# Altium footprint library connector.PcbLib: 180 footprints (part 1 of 12)
Each footprint in its own frame and in the unit in brackets; x right, y up, seen from the top. Pads: shape width x height; smd on the part's side, far side on the other; paste and mask are expansions set on the pad; w line width, h text height; cw(c..) or ccw(c..) is an arc to the next point about the centre after c.
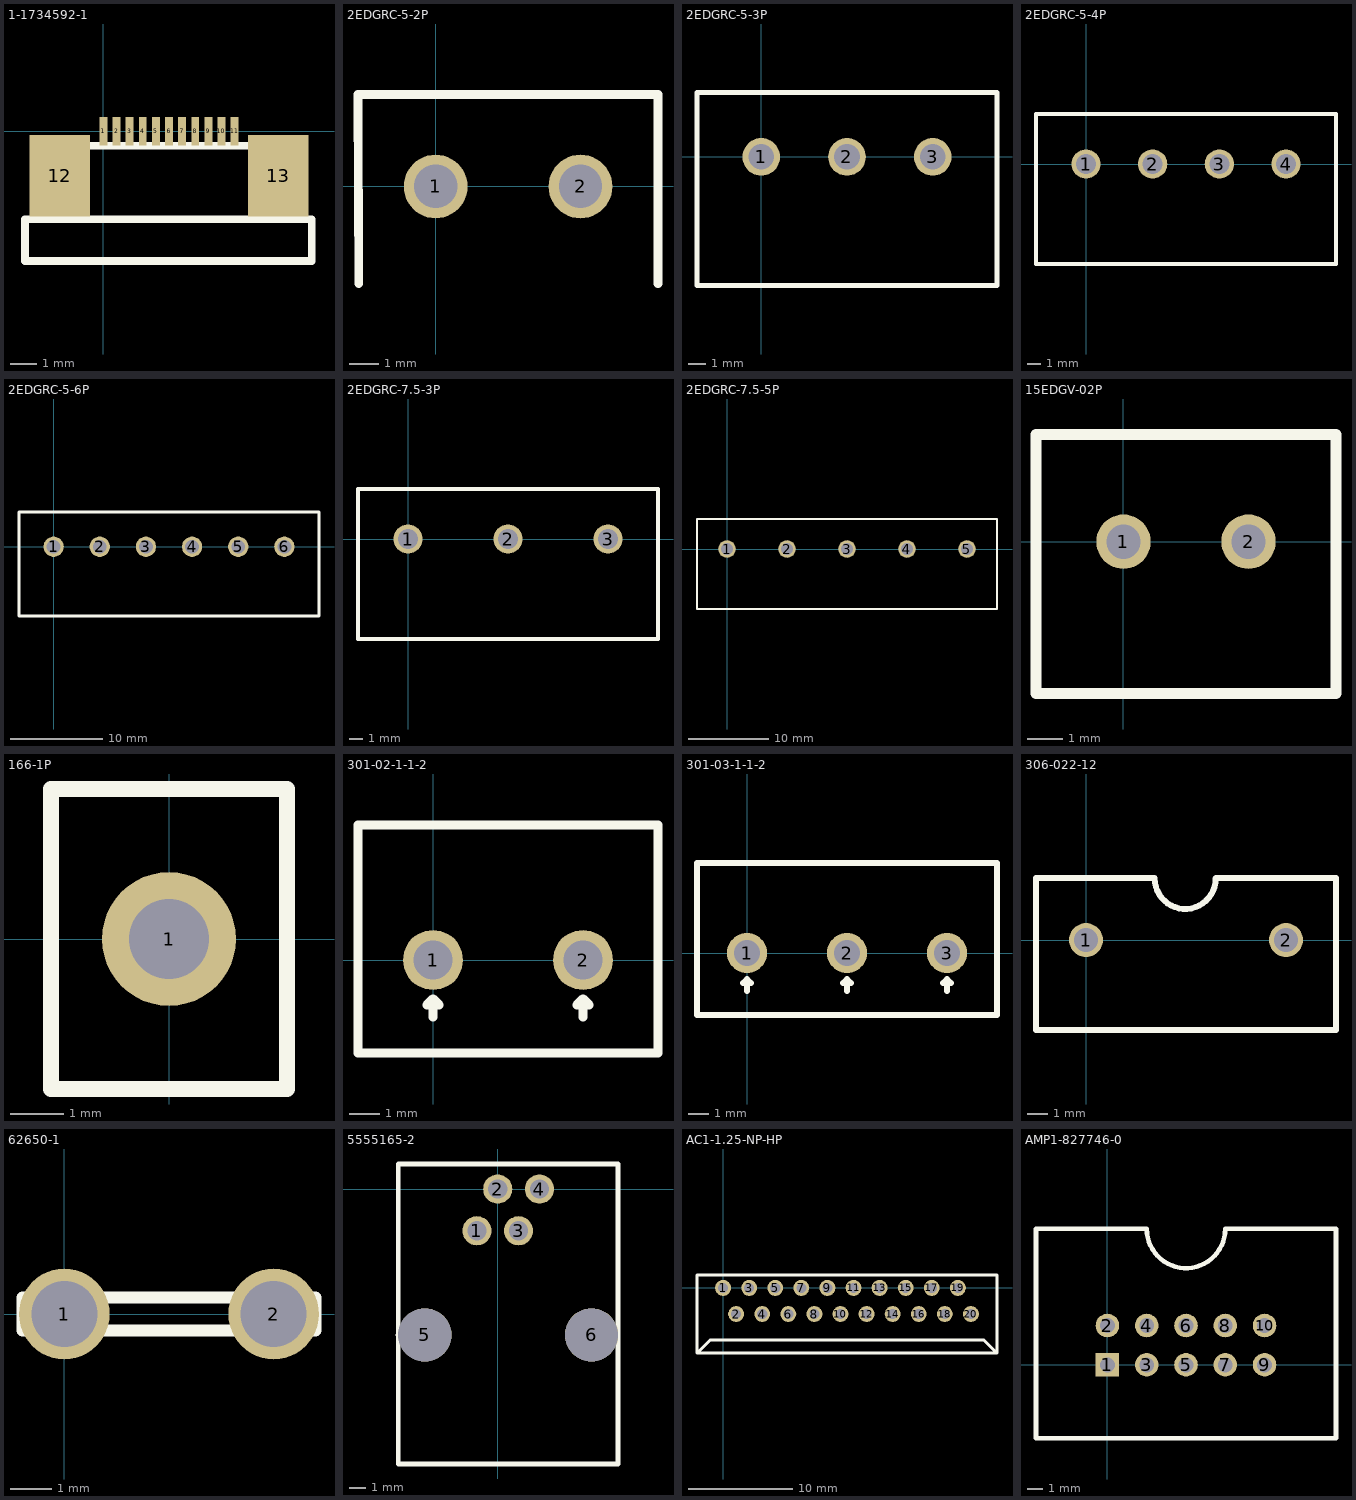
[diagram p0: the footprints below, top view; thin cyan lines are the x and y axes]

## 1-1734592-1 [mm]
pads (13):
  rect 0.3x1.1 smd: 1(0,0) 2(0.5,0) 3(1,0) 4(1.5,0) 5(2,0) 6(2.5,0) 7(3,0) 8(3.5,0) 9(4,0) 10(4.5,0) 11(5,0)
  rect 2.3x3.1 smd: 12(-1.67,-1.7) 13(6.67,-1.7)
Top Overlay:
  lines w0.3: -2.315,-3.355 -2.315,-0.555 7.305,-0.555 7.305,-3.355 ; -2.985,-4.955 7.945,-4.955 7.945,-3.355 -2.985,-3.355 -2.985,-4.955

## 2EDGRC-5-2P [mm]
pads (2):
  round 2.2 hole 1.5: 1(0,0) 2(5,0)
Top Overlay:
  lines w0.3: -2.656,-3.35 -2.681,3.175 7.675,3.175 7.675,-3.35
3D body "User Library-5EHDR_2P.step": height 8.47, standoff -4, extent -2.5,-9 7.5,3

## 2EDGRC-5-3P [mm]
pads (3):
  round 2.2 hole 1.5: 1(0,0) 2(5,0) 3(10,0)
Top Overlay:
  lines w0.3: -3.75,-7.5 13.75,-7.5 13.75,3.75 -3.75,3.75 -3.75,-5 -3.75,-7.5

## 2EDGRC-5-4P [mm]
pads (4):
  round 2.2 hole 1.5: 1(0,0) 2(5,0) 3(10,0) 4(15,0)
Top Overlay:
  lines w0.3: -3.75,-7.5 18.75,-7.5 18.75,3.75 -3.75,3.75 -3.75,-5 -3.75,-7.5

## 2EDGRC-5-6P [mm]
pads (6):
  round 2.2 hole 1.5: 1(0,0) 2(5,0) 3(10,0) 4(15,0) 5(20,0) 6(25,0)
Top Overlay:
  lines w0.3: -3.75,-7.5 -3.75,-5 -3.75,3.75 28.75,3.75 28.75,-7.5 -3.75,-7.5

## 2EDGRC-7.5-3P [mm]
pads (3):
  round 2.2 hole 1.5: 1(0,0) 2(7.5,0) 3(15,0)
Top Overlay:
  lines w0.3: -3.75,-7.5 18.75,-7.5 18.75,3.75 -3.75,3.75 -3.75,-5 -3.75,-7.5

## 2EDGRC-7.5-5P [mm]
pads (5):
  round 2.2 hole 1.5: 1(0,0) 2(7.5,0) 3(15,0) 4(22.5,0) 5(30,0)
Top Overlay:
  lines w0.3: -3.75,-7.5 33.75,-7.5 33.75,3.75 -3.75,3.75 -3.75,-5 -3.75,-7.5

## 15EDGV-02P [mil]
pads (2):
  round 60 hole 38: 1(0,0) 2(137.8,0)
Top Overlay:
  lines w11.81: -96.46,-167.32 234.25,-167.32 234.25,118.11 -96.46,118.11 -96.46,-167.32

## 166-1P [mm]
pads (1):
  round 2.5 hole 1.5: 1(0,0)
Top Overlay:
  lines w0.3: -2.2,-2.8 0,-2.8 2.2,-2.8 2.2,0 2.2,2.8 0,2.8 -2.2,2.8 -2.2,-1.8 -2.2,-2.8

## 301-02-1-1-2 [mm]
pads (2):
  round 2 hole 1.3: 1(0,0) 2(5,0)
Top Overlay:
  lines w0.3: -0.2,-1.5 0,-1.3 ; 0,-1.9 0,-1.3 ; 0.2,-1.5 0,-1.3 ; 4.8,-1.5 5,-1.3 ; 5,-1.9 5,-1.3 ; 5.2,-1.5 5,-1.3 ; -2.5,-3.1 -2.5,4.5 7.5,4.5 7.5,-3.1 -2.5,-3.1

## 301-03-1-1-2 [mm]
pads (3):
  round 2 hole 1.3: 1(0,0) 2(5,0) 3(10,0)
Top Overlay:
  lines w0.3: -0.2,-1.5 0,-1.3 ; 0,-1.9 0,-1.3 ; 0.2,-1.5 0,-1.3 ; 4.8,-1.5 5,-1.3 ; 5,-1.9 5,-1.3 ; 5.2,-1.5 5,-1.3 ; 9.8,-1.5 10,-1.3 ; 10,-1.9 10,-1.3 ; 10.2,-1.5 10,-1.3 ; -2.5,-3.1 -2.5,4.5 12.5,4.5 12.5,-3.1 -2.5,-3.1

## 306-022-12 [mm]
pads (2):
  round 1.7 hole 1.2: 1(0,0) 2(10,0)
Top Overlay:
  lines w0.3: 3.43,3.1 -2.5,3.1 -2.5,-4.5 12.5,-4.5 12.5,3.1 6.49,3.1 ; 3.436,3.091 ccw(c4.96,3.08) 6.484,3.08

## 62650-1 [mm]
pads (2):
  round 2.2 hole 1.6: 1(0,0) 2(5.08,0)
Top Overlay:
  lines w0.3: -1.015,-0.4 -1.015,0.4 6.095,0.4 6.095,-0.4 -1.015,-0.4

## 5555165-2 [mil]
pads (6):
  round 70 hole 46: 1(-50,-100) 2(0,0) 3(50,-100) 4(100,0)
  round 127.95 hole 127.95: 5(-174.8,-350) 6(225.2,-350)
Top Overlay:
  lines w11.81: -239.8,-350 -238.78,-350 ; -238.78,-659.84 -238.78,60.28 289.17,60.28 289.17,-659.8 -238.78,-659.8

## AC1-1.25-NP-HP [mil]
pads (20):
  round 60 hole 38: 1(0,0) 2(49.21,-98.43) 3(98.43,0) 4(147.64,-98.43) 5(196.85,0) 6(246.06,-98.43) 7(295.28,0) 8(344.49,-98.43) 9(393.7,0) 10(442.91,-98.43) 11(492.13,0) 12(541.34,-98.43) 13(590.55,0) 14(639.76,-98.43) 15(688.98,0) 16(738.19,-98.43) 17(787.4,0) 18(836.61,-98.43) 19(885.83,0) 20(935.04,-98.43)
Top Overlay:
  lines w11.81: -98.43,-246.06 1033.46,-246.06 ; -98.43,-246.06 -98.43,49.21 1033.46,49.21 1033.46,-246.06 ; -98.43,-246.06 -49.21,-196.85 984.25,-196.85 1033.46,-246.06

## AMP1-827746-0 [mil]
pads (10):
  rect 60x60 hole 38: 1(0,0)
  round 60 hole 38: 2(0,100) 3(100,0) 4(100,100) 5(200,0) 6(200,100) 7(300,0) 8(300,100) 9(400,0) 10(400,100)
Top Overlay:
  lines w11.81: -181.89,-187.4 581.89,-187.4 581.89,346.06 300,346.06 cw(c200,346.06) 100,346.06 -181.89,346.06 -181.89,-187.4